# EAGLE library part IL261 (library Dmitry)
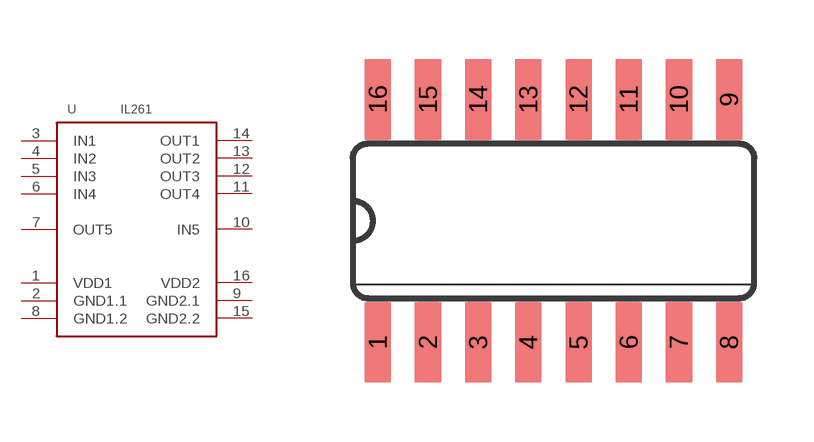
[diagram p15: symbol with the pads of SO16; footprint SO16]

Designator prefix U

## IL261  [SO16]
1  VDD1
2  GND1.1
3  IN1
4  IN2
5  IN3
6  IN4
7  OUT5
8  GND1.2
9  GND2.1
10  IN5
11  OUT4
12  OUT3
13  OUT2
14  OUT1
15  GND2.2
16  VDD2

## Footprint SO16 (pad centres in mm)
Small Outline Package .150 SIOC Source: http://www.maxim-ic.com/package_drawings/21-0041B.pdf
smd 0.66 x 2.032: 1 -4.445,-3.073; 2 -3.175,-3.073; 3 -1.905,-3.073; 4 -0.635,-3.073; 5 0.635,-3.073; 6 1.905,-3.073; 7 3.175,-3.073; 8 4.445,-3.073; 9 4.445,3.073; 10 3.175,3.073; 11 1.905,3.073; 12 0.635,3.073; 13 -0.635,3.073; 14 -1.905,3.073; 15 -3.175,3.073; 16 -4.445,3.073